# Altium schematic symbol library 7466205R.SchLib: 1 symbol
Pins are listed as number, name and electrical type; pins without a type are passive.

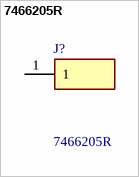
[diagram p0: symbol 7466205R]

## 7466205R
designator J?
WP-SMBU REDCUBE Bush, SMT_closed height: 7mm, total height: 7mm, thread: M5 x 4mm, diameter: 9mm, on Reel, with Polyimide Tape, REDCUBE SMT;  M5, blind 4mm; Manufacturer_Name: Wurth Elektronik; Mouser Part Number: 710-7466205R; Mouser Price/Stock: https://www.mouser.co.uk/ProductDetail/Wurth-Elektronik/7466205R?qs=lBTPRtX1sU8D2oI%252B7M8jdw%3D%3D; Manufacturer_Part_Number: 7466205R; Datasheet Link: https://www.we-online.com/components/products/download/3D_7466205+%28rev1%29.pdf; Geometry.Height: 7mm
footprint 7466205R
pins: 1